# EAGLE library part AT49BV6416 (library memory)
FLASH MEMORY 64 Mega Bit (4Mx16)
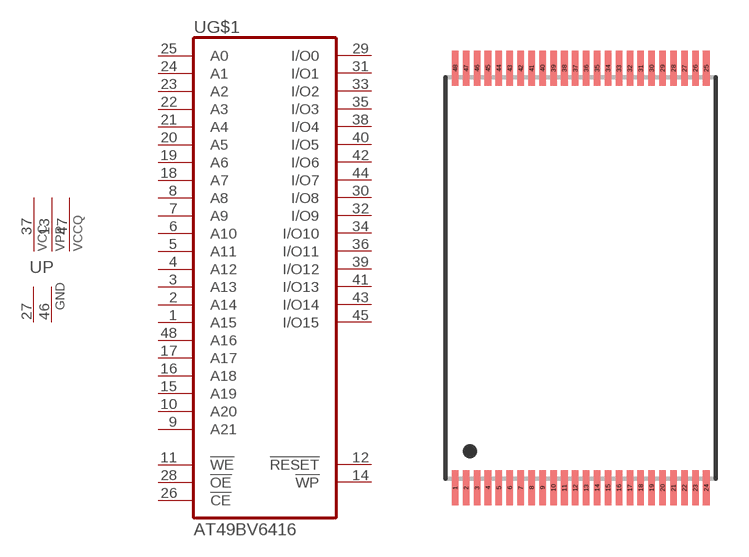
[diagram p66: symbol with the pads of TSOP48; footprint TSOP48]

Designator prefix U; gates G$1=AT49BV6416 P=VCPQ2GND

## AT49BV6416  [TSOP48]
1  G$1:A15  in
2  G$1:A14  in
3  G$1:A13  in
4  G$1:A12  in
5  G$1:A11  in
6  G$1:A10  in
7  G$1:A9  in
8  G$1:A8  in
9  G$1:A21  in
10  G$1:A20  in
11  G$1:!WE!  in
12  G$1:!RESET!  in
13  P:VPP  pwr
14  G$1:!WP!  in
15  G$1:A19  in
16  G$1:A18  in
17  G$1:A17  in
18  G$1:A7  in
19  G$1:A6  in
20  G$1:A5  in
21  G$1:A4  in
22  G$1:A3  in
23  G$1:A2  in
24  G$1:A1  in
25  G$1:A0  in
26  G$1:!CE!  in
27  P:GND  pwr
28  G$1:!OE!  in
29  G$1:I/O0
30  G$1:I/O8
31  G$1:I/O1
32  G$1:I/O9
33  G$1:I/O2
34  G$1:I/O10
35  G$1:I/O3
36  G$1:I/O11
37  P:VCC  pwr
38  G$1:I/O4
39  G$1:I/O12
40  G$1:I/O5
41  G$1:I/O13
42  G$1:I/O6
43  G$1:I/O14
44  G$1:I/O7
45  G$1:I/O15
46  P:GND  pwr
47  P:VCCQ  pwr
48  G$1:A16  in

## Footprint TSOP48 (pad centres in mm)
48-TSOP1-1220F, Samsung
smd 0.3 x 1.6: 1 -5.75,-9.6; 2 -5.25,-9.6; 3 -4.75,-9.6; 4 -4.25,-9.6; 5 -3.75,-9.6; 6 -3.25,-9.6; 7 -2.75,-9.6; 8 -2.25,-9.6; 9 -1.75,-9.6; 10 -1.25,-9.6; 11 -0.75,-9.6; 12 -0.25,-9.6; 13 0.25,-9.6; 14 0.75,-9.6; 15 1.25,-9.6; 16 1.75,-9.6; 17 2.25,-9.6; 18 2.75,-9.6; 19 3.25,-9.6; 20 3.75,-9.6; 21 4.25,-9.6; 22 4.75,-9.6; 23 5.25,-9.6; 24 5.75,-9.6; 25 5.75,9.6; 26 5.25,9.6; 27 4.75,9.6; 28 4.25,9.6; 29 3.75,9.6; 30 3.25,9.6; 31 2.75,9.6; 32 2.25,9.6; 33 1.75,9.6; 34 1.25,9.6; 35 0.75,9.6; 36 0.25,9.6; 37 -0.25,9.6; 38 -0.75,9.6; 39 -1.25,9.6; 40 -1.75,9.6; 41 -2.25,9.6; 42 -2.75,9.6; 43 -3.25,9.6; 44 -3.75,9.6; 45 -4.25,9.6; 46 -4.75,9.6; 47 -5.25,9.6; 48 -5.75,9.6